# EAGLE library part MIGHTYBOARD (library heliowatcher)
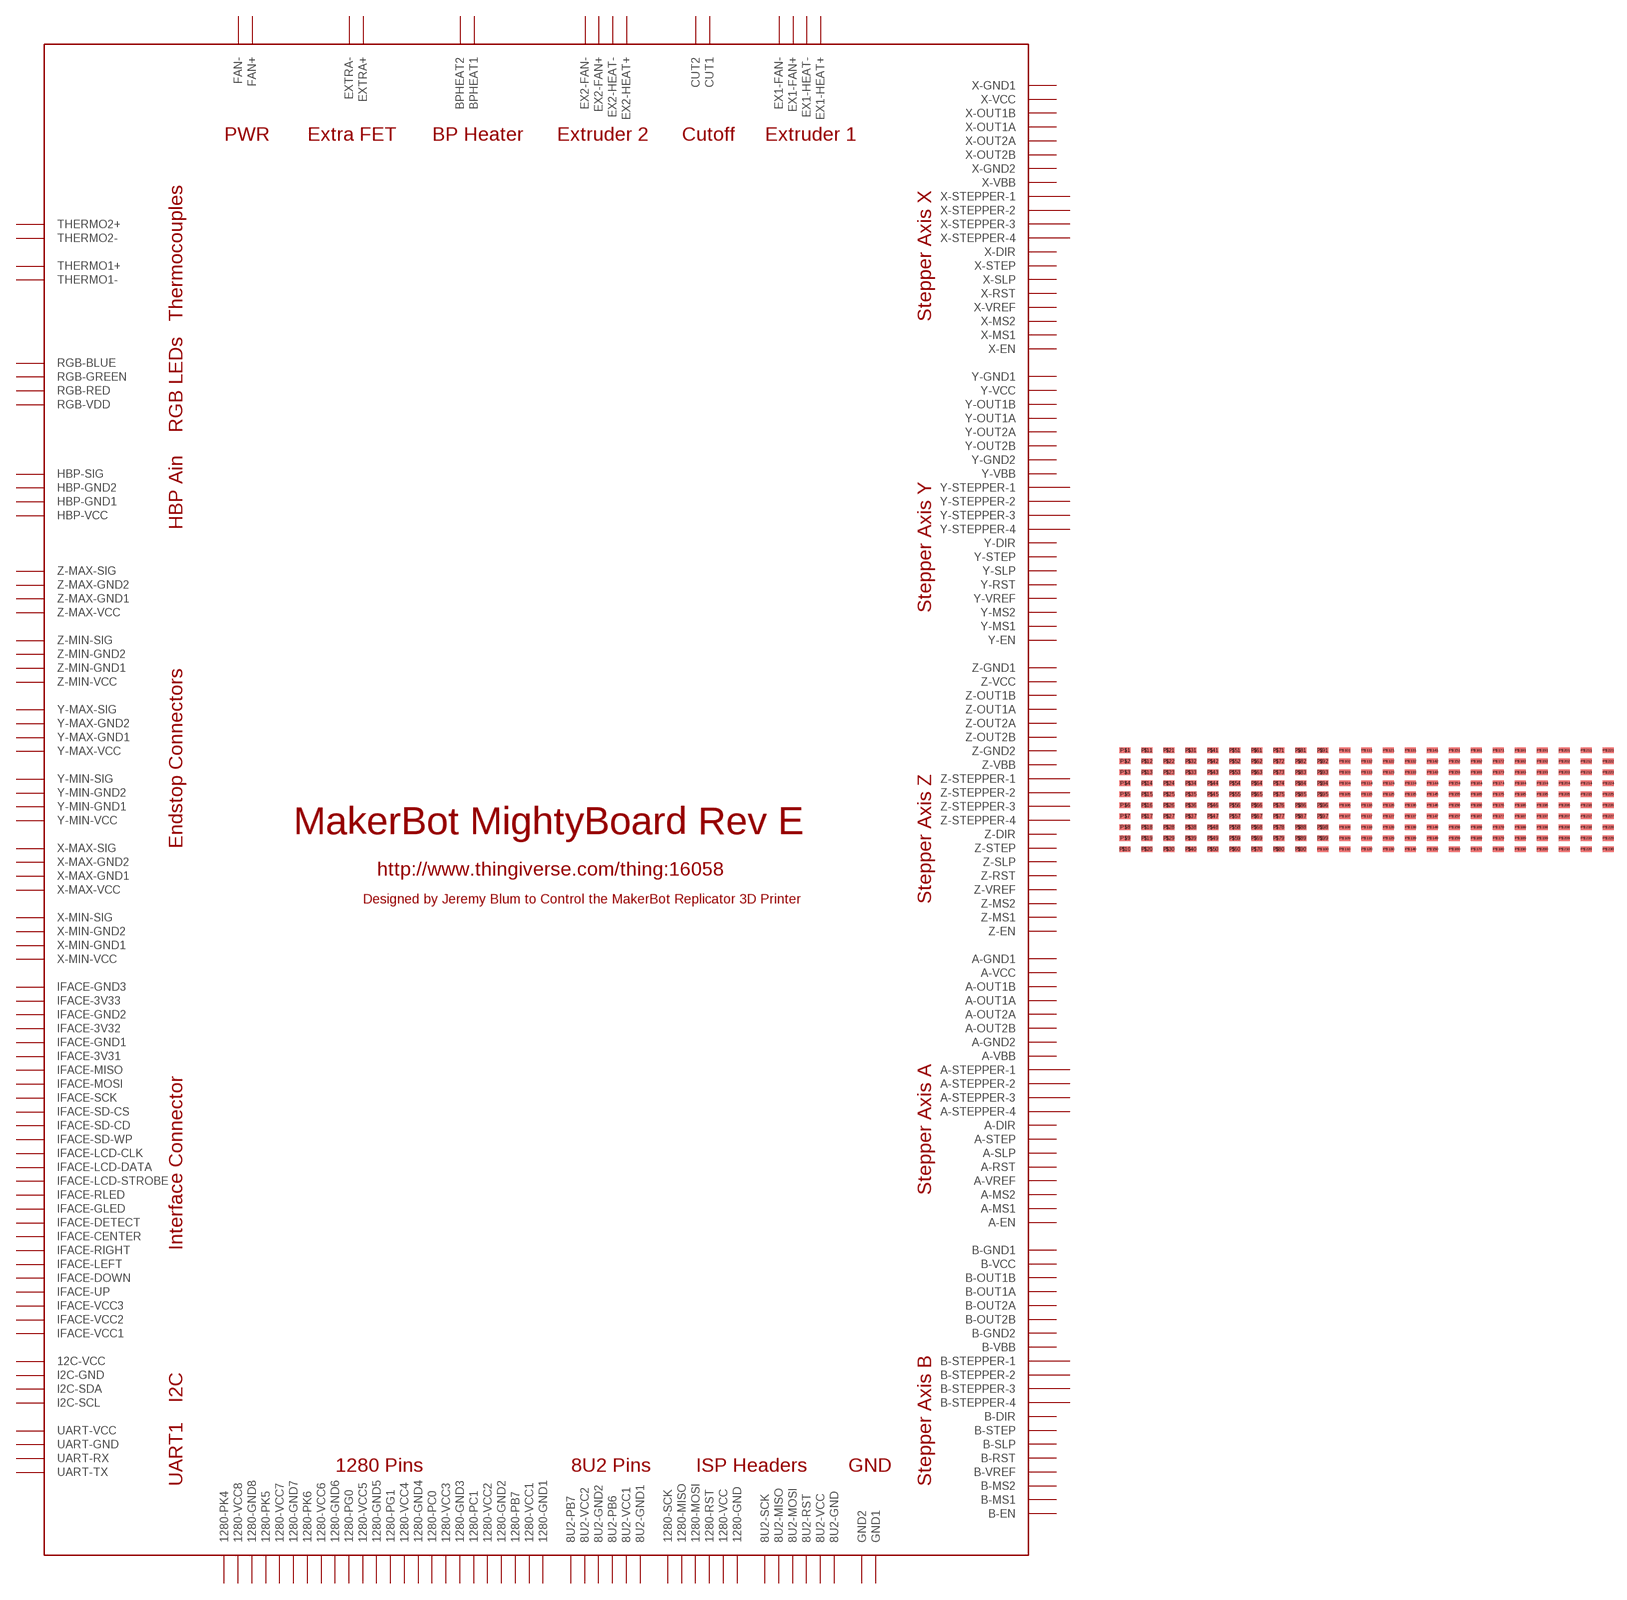
[diagram p0: symbol with the pads of FAKE; footprint FAKE]

Designator prefix -

## MIGHTYBOARD  [FAKE]
P$1  8U2-GND
P$2  8U2-GND1
P$3  8U2-GND2
P$4  8U2-MISO
P$5  8U2-MOSI
P$6  8U2-PB6
P$7  8U2-PB7
P$8  8U2-RST
P$9  8U2-SCK
P$10  8U2-VCC
P$11  8U2-VCC1
P$12  8U2-VCC2
P$13  12C-VCC
P$14  1280-GND
P$15  1280-GND1
P$16  1280-GND2
P$17  1280-GND3
P$18  1280-GND4
P$19  1280-GND5
P$20  1280-GND6
P$21  1280-GND7
P$22  1280-GND8
P$23  1280-MISO
P$24  1280-MOSI
P$25  1280-PB7
P$26  1280-PC0
P$27  1280-PC1
P$28  1280-PG0
P$29  1280-PG1
P$30  1280-PK4
P$31  1280-PK5
P$32  1280-PK6
P$33  1280-RST
P$34  1280-SCK
P$35  1280-VCC
P$36  1280-VCC1
P$37  1280-VCC2
P$38  1280-VCC3
P$39  1280-VCC4
P$40  1280-VCC5
P$41  1280-VCC6
P$42  1280-VCC7
P$43  1280-VCC8
P$44  A-DIR
P$45  A-EN
P$46  A-GND1
P$47  A-GND2
P$48  A-MS1
P$49  A-MS2
P$50  A-OUT1A
P$51  A-OUT1B
P$52  A-OUT2A
P$53  A-OUT2B
P$54  A-RST
P$55  A-SLP
P$56  A-STEP
P$57  A-STEPPER-1
P$58  A-STEPPER-2
P$59  A-STEPPER-3
P$60  A-STEPPER-4
P$61  A-VBB
P$62  A-VCC
P$63  A-VREF
P$64  B-DIR
P$65  B-EN
P$66  B-GND1
P$67  B-GND2
P$68  B-MS1
P$69  B-MS2
P$70  B-OUT1A
P$71  B-OUT1B
P$72  B-OUT2A
P$73  B-OUT2B
P$74  B-RST
P$75  B-SLP
P$76  B-STEP
P$77  B-STEPPER-1
P$78  B-STEPPER-2
P$79  B-STEPPER-3
P$80  B-STEPPER-4
P$81  B-VBB
P$82  B-VCC
P$83  B-VREF
P$84  BPHEAT1
P$85  BPHEAT2
P$86  CUT1
P$87  CUT2
P$88  EX1-FAN+
P$89  EX1-FAN-
P$90  EX1-HEAT+
P$91  EX1-HEAT-
P$92  EX2-FAN+
P$93  EX2-FAN-
P$94  EX2-HEAT+
P$95  EX2-HEAT-
P$96  EXTRA+
P$97  EXTRA-
P$98  FAN+
P$99  FAN-
P$100  GND1
P$101  GND2
P$102  HBP-GND1
P$103  HBP-GND2
P$104  HBP-SIG
P$105  HBP-VCC
P$106  I2C-GND
P$107  I2C-SCL
P$108  I2C-SDA
P$109  IFACE-3V31
P$110  IFACE-3V32
P$111  IFACE-3V33
P$112  IFACE-CENTER
P$113  IFACE-DETECT
P$114  IFACE-DOWN
P$115  IFACE-GLED
P$116  IFACE-GND1
P$117  IFACE-GND2
P$118  IFACE-GND3
P$119  IFACE-LCD-CLK
P$120  IFACE-LCD-DATA
P$121  IFACE-LCD-STROBE
P$122  IFACE-LEFT
P$123  IFACE-MISO
P$124  IFACE-MOSI
P$125  IFACE-RIGHT
P$126  IFACE-RLED
P$127  IFACE-SCK
P$128  IFACE-SD-CD
P$129  IFACE-SD-CS
P$130  IFACE-SD-WP
P$131  IFACE-UP
P$132  IFACE-VCC1
P$133  IFACE-VCC2
P$134  IFACE-VCC3
P$135  RGB-BLUE
P$136  RGB-GREEN
P$137  RGB-RED
P$138  RGB-VDD
P$139  THERMO1+
P$140  THERMO1-
P$141  THERMO2+
P$142  THERMO2-
P$143  UART-GND
P$144  UART-RX
P$145  UART-TX
P$146  UART-VCC
P$147  X-DIR
P$148  X-EN
P$149  X-GND1
P$150  X-GND2
P$151  X-MAX-GND1
P$152  X-MAX-GND2
P$153  X-MAX-SIG
P$154  X-MAX-VCC
P$155  X-MIN-GND1
P$156  X-MIN-GND2
P$157  X-MIN-SIG
P$158  X-MIN-VCC
P$159  X-MS1
P$160  X-MS2
P$161  X-OUT1A
P$162  X-OUT1B
P$163  X-OUT2A
P$164  X-OUT2B
P$165  X-RST
P$166  X-SLP
P$167  X-STEP
P$168  X-STEPPER-1
P$169  X-STEPPER-2
P$170  X-STEPPER-3
P$171  X-STEPPER-4
P$172  X-VBB
P$173  X-VCC
P$174  X-VREF
P$175  Y-DIR
P$176  Y-EN
P$177  Y-GND1
P$178  Y-GND2
P$179  Y-MAX-GND1
P$180  Y-MAX-GND2
P$181  Y-MAX-SIG
P$182  Y-MAX-VCC
P$183  Y-MIN-GND1
P$184  Y-MIN-GND2
P$185  Y-MIN-SIG
P$186  Y-MIN-VCC
P$187  Y-MS1
P$188  Y-MS2
P$189  Y-OUT1A
P$190  Y-OUT1B
P$191  Y-OUT2A
P$192  Y-OUT2B
P$193  Y-RST
P$194  Y-SLP
P$195  Y-STEP
P$196  Y-STEPPER-1
P$197  Y-STEPPER-2
P$198  Y-STEPPER-3
P$199  Y-STEPPER-4
P$200  Y-VBB
P$201  Y-VCC
P$202  Y-VREF
P$203  Z-DIR
P$204  Z-EN
P$205  Z-GND1
P$206  Z-GND2
P$207  Z-MAX-GND1
P$208  Z-MAX-GND2
P$209  Z-MAX-SIG
P$210  Z-MAX-VCC
P$211  Z-MIN-GND1
P$212  Z-MIN-GND2
P$213  Z-MIN-SIG
P$214  Z-MIN-VCC
P$215  Z-MS1
P$216  Z-MS2
P$217  Z-OUT1A
P$218  Z-OUT1B
P$219  Z-OUT2A
P$220  Z-OUT2B
P$221  Z-RST
P$222  Z-SLP
P$223  Z-STEP
P$224  Z-STEPPER-1
P$225  Z-STEPPER-2
P$226  Z-STEPPER-3
P$227  Z-STEPPER-4
P$228  Z-VBB
P$229  Z-VCC
P$230  Z-VREF

## Footprint FAKE (pad centres in mm)
smd 1.27 x 0.635: P$1 -29.21,21.59; P$2 -29.21,20.32; P$3 -29.21,19.05; P$4 -29.21,17.78; P$5 -29.21,16.51; P$6 -29.21,15.24; P$7 -29.21,13.97; P$8 -29.21,12.7; P$9 -29.21,11.43; P$10 -29.21,10.16; P$11 -26.67,21.59; P$12 -26.67,20.32; P$13 -26.67,19.05; P$14 -26.67,17.78; P$15 -26.67,16.51; P$16 -26.67,15.24; P$17 -26.67,13.97; P$18 -26.67,12.7; P$19 -26.67,11.43; P$20 -26.67,10.16; P$21 -24.13,21.59; P$22 -24.13,20.32; P$23 -24.13,19.05; P$24 -24.13,17.78; P$25 -24.13,16.51; P$26 -24.13,15.24; P$27 -24.13,13.97; P$28 -24.13,12.7; P$29 -24.13,11.43; P$30 -24.13,10.16; P$31 -21.59,21.59; P$32 -21.59,20.32; P$33 -21.59,19.05; P$34 -21.59,17.78; P$35 -21.59,16.51; P$36 -21.59,15.24; P$37 -21.59,13.97; P$38 -21.59,12.7; P$39 -21.59,11.43; P$40 -21.59,10.16; P$41 -19.05,21.59; P$42 -19.05,20.32; P$43 -19.05,19.05; P$44 -19.05,17.78; P$45 -19.05,16.51; P$46 -19.05,15.24; P$47 -19.05,13.97; P$48 -19.05,12.7; P$49 -19.05,11.43; P$50 -19.05,10.16; P$51 -16.51,21.59; P$52 -16.51,20.32; P$53 -16.51,19.05; P$54 -16.51,17.78; P$55 -16.51,16.51; P$56 -16.51,15.24; P$57 -16.51,13.97; P$58 -16.51,12.7; P$59 -16.51,11.43; P$60 -16.51,10.16; P$61 -13.97,21.59; P$62 -13.97,20.32; P$63 -13.97,19.05; P$64 -13.97,17.78; P$65 -13.97,16.51; P$66 -13.97,15.24; P$67 -13.97,13.97; P$68 -13.97,12.7; P$69 -13.97,11.43; P$70 -13.97,10.16; P$71 -11.43,21.59; P$72 -11.43,20.32; P$73 -11.43,19.05; P$74 -11.43,17.78; P$75 -11.43,16.51; P$76 -11.43,15.24; P$77 -11.43,13.97; P$78 -11.43,12.7; P$79 -11.43,11.43; P$80 -11.43,10.16; P$81 -8.89,21.59; P$82 -8.89,20.32; P$83 -8.89,19.05; P$84 -8.89,17.78; P$85 -8.89,16.51; P$86 -8.89,15.24; P$87 -8.89,13.97; P$88 -8.89,12.7; P$89 -8.89,11.43; P$90 -8.89,10.16; P$91 -6.35,21.59; P$92 -6.35,20.32; P$93 -6.35,19.05; P$94 -6.35,17.78; P$95 -6.35,16.51; P$96 -6.35,15.24; P$97 -6.35,13.97; P$98 -6.35,12.7; P$99 -6.35,11.43; P$100 -6.35,10.16; P$101 -3.81,21.59; P$102 -3.81,20.32; P$103 -3.81,19.05; P$104 -3.81,17.78; P$105 -3.81,16.51; P$106 -3.81,15.24; P$107 -3.81,13.97; P$108 -3.81,12.7; P$109 -3.81,11.43; P$110 -3.81,10.16; P$111 -1.27,21.59; P$112 -1.27,20.32; P$113 -1.27,19.05; P$114 -1.27,17.78; P$115 -1.27,16.51; P$116 -1.27,15.24; P$117 -1.27,13.97; P$118 -1.27,12.7; P$119 -1.27,11.43; P$120 -1.27,10.16; P$121 1.27,21.59; P$122 1.27,20.32; P$123 1.27,19.05; P$124 1.27,17.78; P$125 1.27,16.51; P$126 1.27,15.24; P$127 1.27,13.97; P$128 1.27,12.7; P$129 1.27,11.43; P$130 1.27,10.16; P$131 3.81,21.59; P$132 3.81,20.32; P$133 3.81,19.05; P$134 3.81,17.78; P$135 3.81,16.51; P$136 3.81,15.24; P$137 3.81,13.97; P$138 3.81,12.7; P$139 3.81,11.43; P$140 3.81,10.16; P$141 6.35,21.59; P$142 6.35,20.32; P$143 6.35,19.05; P$144 6.35,17.78; P$145 6.35,16.51; P$146 6.35,15.24; P$147 6.35,13.97; P$148 6.35,12.7; P$149 6.35,11.43; P$150 6.35,10.16; P$151 8.89,21.59; P$152 8.89,20.32; P$153 8.89,19.05; P$154 8.89,17.78; P$155 8.89,16.51; P$156 8.89,15.24; P$157 8.89,13.97; P$158 8.89,12.7; P$159 8.89,11.43; P$160 8.89,10.16; P$161 11.43,21.59; P$162 11.43,20.32; P$163 11.43,19.05; P$164 11.43,17.78; P$165 11.43,16.51; P$166 11.43,15.24; P$167 11.43,13.97; P$168 11.43,12.7; P$169 11.43,11.43; P$170 11.43,10.16; P$171 13.97,21.59; P$172 13.97,20.32; P$173 13.97,19.05; P$174 13.97,17.78; P$175 13.97,16.51; P$176 13.97,15.24; P$177 13.97,13.97; P$178 13.97,12.7; P$179 13.97,11.43; P$180 13.97,10.16; P$181 16.51,21.59; P$182 16.51,20.32; P$183 16.51,19.05; P$184 16.51,17.78; P$185 16.51,16.51; P$186 16.51,15.24; P$187 16.51,13.97; P$188 16.51,12.7; P$189 16.51,11.43; P$190 16.51,10.16; P$191 19.05,21.59; P$192 19.05,20.32; P$193 19.05,19.05; P$194 19.05,17.78; P$195 19.05,16.51; P$196 19.05,15.24; P$197 19.05,13.97; P$198 19.05,12.7; P$199 19.05,11.43; P$200 19.05,10.16; P$201 21.59,21.59; P$202 21.59,20.32; P$203 21.59,19.05; P$204 21.59,17.78; P$205 21.59,16.51; P$206 21.59,15.24; P$207 21.59,13.97; P$208 21.59,12.7; P$209 21.59,11.43; P$210 21.59,10.16; P$211 24.13,21.59; P$212 24.13,20.32; P$213 24.13,19.05; P$214 24.13,17.78; P$215 24.13,16.51; P$216 24.13,15.24; P$217 24.13,13.97; P$218 24.13,12.7; P$219 24.13,11.43; P$220 24.13,10.16; P$221 26.67,21.59; P$222 26.67,20.32; P$223 26.67,19.05; P$224 26.67,17.78; P$225 26.67,16.51; P$226 26.67,15.24; P$227 26.67,13.97; P$228 26.67,12.7; P$229 26.67,11.43; P$230 26.67,10.16